# Altium footprint library PcbLib1.PcbLib: 2 footprints
Each footprint in its own frame and in the unit in brackets; x right, y up, seen from the top. Pads: shape width x height; smd on the part's side, far side on the other; paste and mask are expansions set on the pad; w line width, h text height; cw(c..) or ccw(c..) is an arc to the next point about the centre after c.
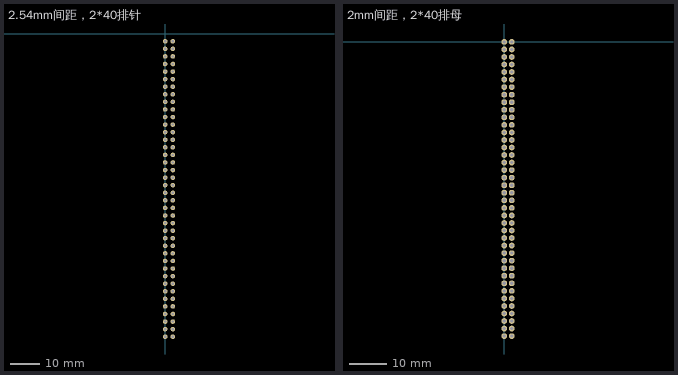
[diagram p0: the footprints below, top view; thin cyan lines are the x and y axes]

## 2.54mm间距，2*40排针 [mil]
height 244.09
pads (80):
  round 60 hole 30: 1(0,-100) 2(0,-200) 3(0,-300) 4(0,-400) 5(0,-500) 6(0,-600) 7(0,-700) 8(0,-800) 9(0,-900) 10(0,-1000) 11(0,-1100) 12(0,-1200) 13(0,-1300) 14(0,-1400) 15(0,-1500) 16(0,-1600) 17(0,-1700) 18(0,-1800) 19(0,-1900) 20(0,-2000) 21(0,-2100) 22(0,-2200) 23(0,-2300) 24(0,-2400) 25(0,-2500) 26(0,-2600) 27(0,-2700) 28(0,-2800) 29(0,-2900) 30(0,-3000) 31(0,-3100) 32(0,-3200) 33(0,-3300) 34(0,-3400) 35(0,-3500) 36(0,-3600) 37(0,-3700) 38(0,-3800) 39(0,-3900) 40(0,-4000) 41(100,-4000) 42(100,-3900) 43(100,-3800) 44(100,-3700) 45(100,-3600) 46(100,-3500) 47(100,-3400) 48(100,-3300) 49(100,-3200) 50(100,-3100) 51(100,-3000) 52(100,-2900) 53(100,-2800) 54(100,-2700) 55(100,-2600) 56(100,-2500) 57(100,-2400) 58(100,-2300) 59(100,-2200) 60(100,-2100) 61(100,-2000) 62(100,-1900) 63(100,-1800) 64(100,-1700) 65(100,-1600) 66(100,-1500) 67(100,-1400) 68(100,-1300) 69(100,-1200) 70(100,-1100) 71(100,-1000) 72(100,-900) 73(100,-800) 74(100,-700) 75(100,-600) 76(100,-500) 77(100,-400) 78(100,-300) 79(100,-200) 80(100,-100)

## 2mm间距，2*40排母 [mm]
height 5.9
pads (80):
  round 1.524 hole 0.85: 1(0,0) 2(0,-2) 3(0,-4) 4(0,-6) 5(0,-8) 6(0,-10) 7(0,-12) 8(0,-14) 9(0,-16) 10(0,-18) 11(0,-20) 12(0,-22) 13(0,-24) 14(0,-26) 15(0,-28) 16(0,-30) 17(0,-32) 18(0,-34) 19(0,-36) 20(0,-38) 21(0,-40) 22(0,-42) 23(0,-44) 24(0,-46) 25(0,-48) 26(0,-50) 27(0,-52) 28(0,-54) 29(0,-56) 30(0,-58) 31(0,-60) 32(0,-62) 33(0,-64) 34(0,-66) 35(0,-68) 36(0,-70) 37(0,-72) 38(0,-74) 39(0,-76) 40(0,-78) 41(2,-78) 42(2,-76) 43(2,-74) 44(2,-72) 45(2,-70) 46(2,-68) 47(2,-66) 48(2,-64) 49(2,-62) 50(2,-60) 51(2,-58) 52(2,-56) 53(2,-54) 54(2,-52) 55(2,-50) 56(2,-48) 57(2,-46) 58(2,-44) 59(2,-42) 60(2,-40) 61(2,-38) 62(2,-36) 63(2,-34) 64(2,-32) 65(2,-30) 66(2,-28) 67(2,-26) 68(2,-24) 69(2,-22) 70(2,-20) 71(2,-18) 72(2,-16) 73(2,-14) 74(2,-12) 75(2,-10) 76(2,-8) 77(2,-6) 78(2,-4) 79(2,-2) 80(2,0)